# EAGLE library part ZXT13P12DE6 (library diodes-inc-e14)
TRANSISTOR
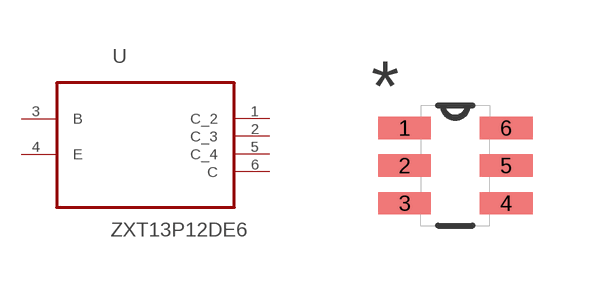
[diagram p59: symbol with the pads of SOT95P280X145-6N; footprint SOT95P280X145-6N]

Designator prefix U

## ZXT13P12DE6 (MPN: ZXT13P12DE6; OC_FARNELL: 9525408; OC_NEWARK: 70K9269; PACKAGE: SOT-23-6; SUPPLIER: DIODES INC.)  [SOT95P280X145-6N]
1  C_2  pas
2  C_3  pas
3  B  pas
4  E  pas
5  C_4  pas
6  C  pas

## Footprint SOT95P280X145-6N (pad centres in mm)
smd 1.321 x 0.559: 1 -1.27,0.94; 2 -1.27,0; 3 -1.27,-0.94; 4 1.27,-0.94; 5 1.27,0; 6 1.27,0.94